# EAGLE library part 2-1393243-0 (library Relays)
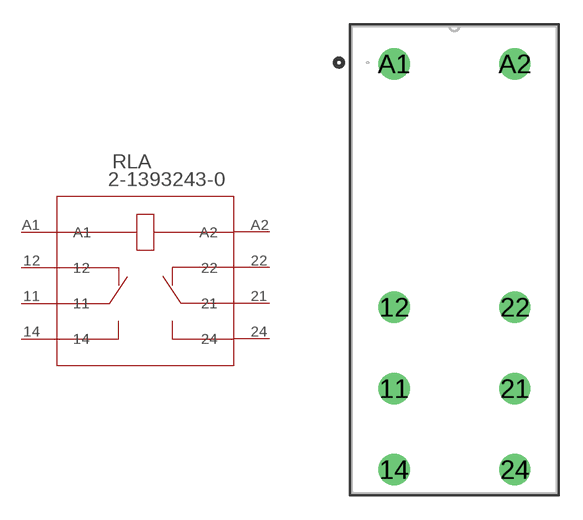
[diagram p36: symbol with the pads of RELAY8_12P7X29; footprint RELAY8_12P7X29]

Designator prefix RLA

## 2-1393243-0 (BUILT_BY: EMA_UL_Team; CATEGORY: Power Relays; CONTACT_ARRANGEMENT: 2 Form C (CO); COPYRIGHT: Copyright (C) 2016 Accelerated Designs. All rights reserved; DESCRIPTION: RTE25012; MANUFACTURER_PART_NUMBER: 2-1393243-0; MAXIMUM_SWITCHING_CURRENT: -; MAXIMUM_SWITCHING_VOLTAGE: -; PART_STATUS: active; PRODUCT_TYPE: -; RELAY_TYPE: -; SERIES: SCHRACK Power PCB Relay RT2; TE_PART_NUMBER: 2-1393243-0; VENDOR: TE Connectivity)  [RELAY8_12P7X29]
11  11  pas
12  12  pas
14  14  pas
21  21  pas
22  22  pas
24  24  pas
A1  A1  pas
A2  A2  pas

## Footprint RELAY8_12P7X29 (pad centres in mm)
drill 1.295 pad 1.803: 11 -7.493,4.14; 12 -7.493,9.195; 14 -7.493,-0.889; 21 0,4.14; 22 0,9.195; 24 0,-0.889; A1 -7.493,24.308; A2 0,24.308